# Altium footprint library diode.PcbLib: 26 footprints (part 1 of 2)
Each footprint in its own frame and in the unit in brackets; x right, y up, seen from the top. Pads: shape width x height; smd on the part's side, far side on the other; paste and mask are expansions set on the pad; w line width, h text height; cw(c..) or ccw(c..) is an arc to the next point about the centre after c.
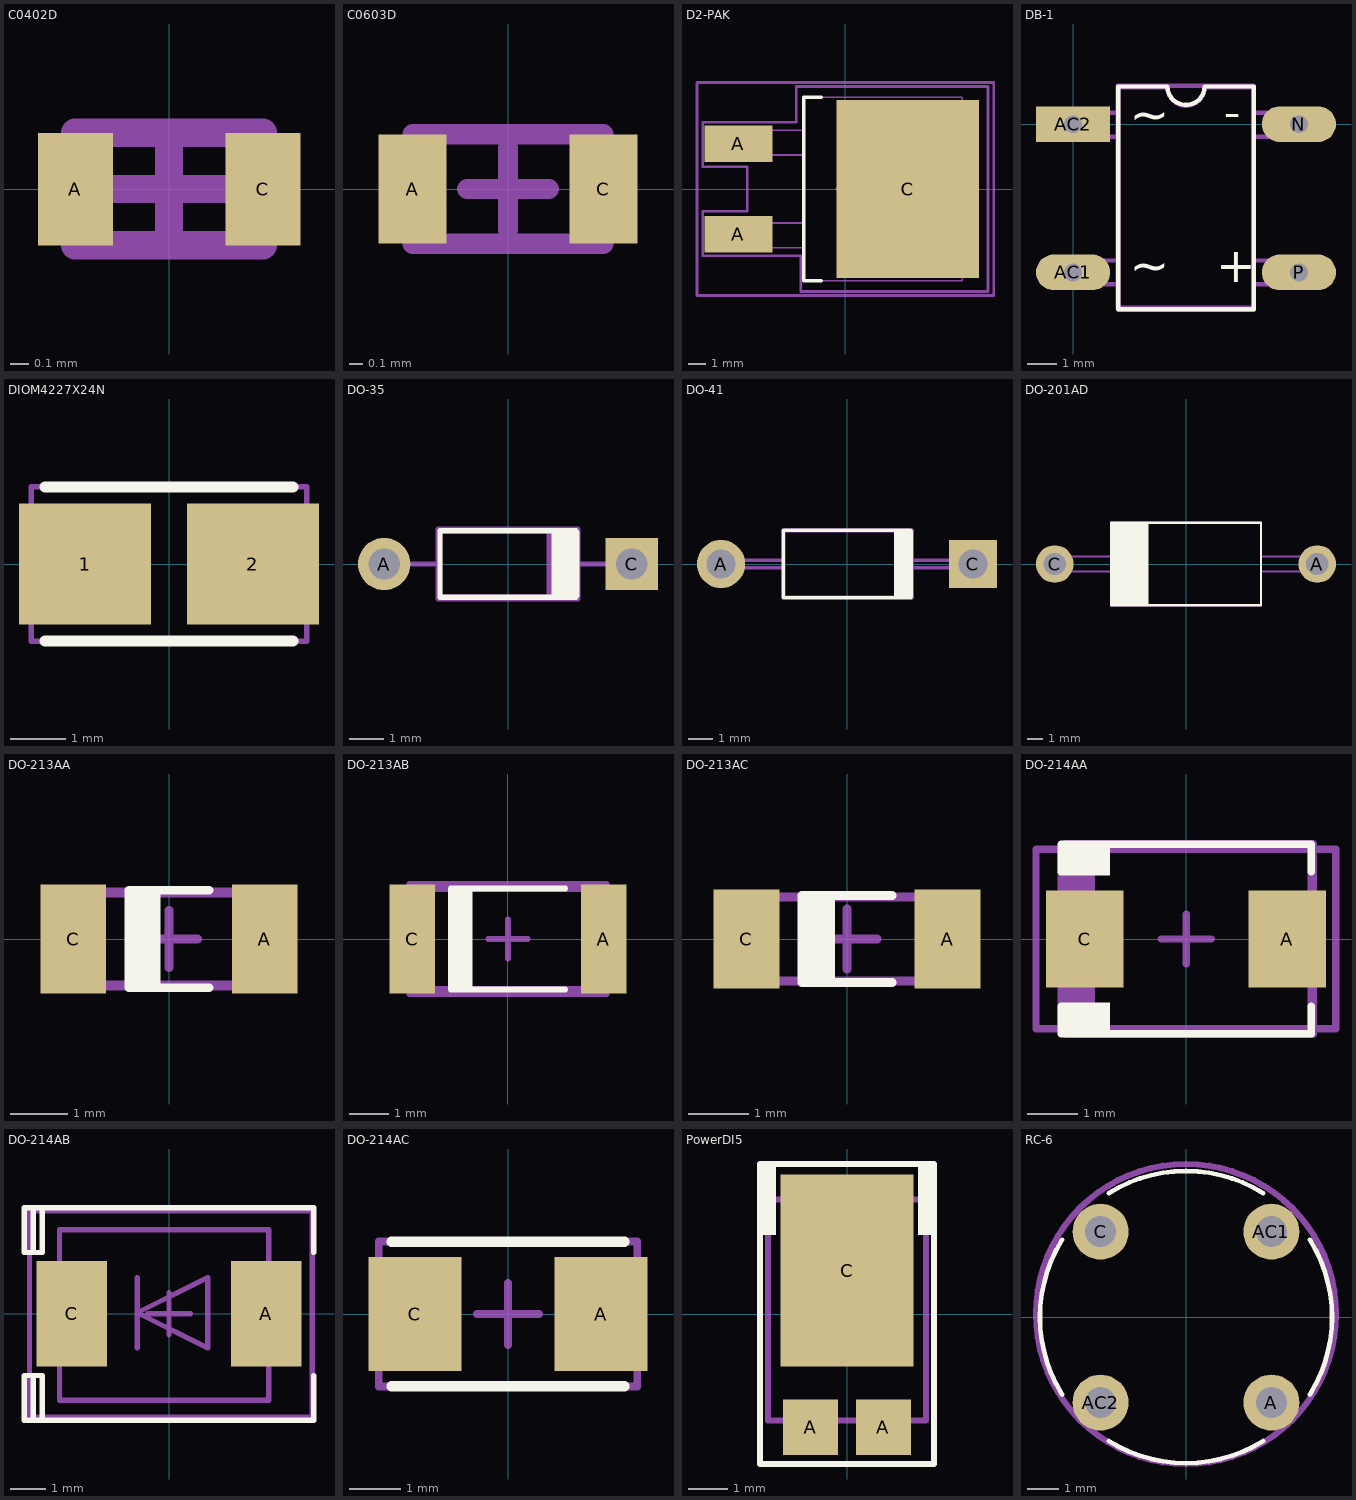
[diagram p0: the footprints below, top view; thin cyan lines are the x and y axes]

## C0402D [mm]
pads (2):
  rect 0.4x0.6 smd: A(-0.5,0) C(0.5,0)
Top Overlay:
  text "." at 1,0.5 h0.1
Top Courtyard:
  lines w0.15: -0.3,0 0.3,0 ; 0,-0.3 0,0.3 ; -0.5,-0.3 0.5,-0.3 0.5,0.3 -0.5,0.3 -0.5,-0.3
3D body: height 0.25, standoff 0, extent -0.52,-0.3 0.52,0.3

## C0603D [mm]
height 0.45
pads (2):
  rect 0.5x0.8 smd: A(-0.7,0) C(0.7,0)
Top Overlay:
  text "." at 1.2,0.8 h0.1
Top Courtyard:
  lines w0.15: -0.3,0 0.3,0 ; 0,-0.3 0,0.3 ; -0.7,-0.4 0.7,-0.4 0.7,0.4 -0.7,0.4 -0.7,-0.4
3D body: height 0.45, standoff 0, extent -0.7,-0.41 -0.5,0.41
3D body: height 0.45, standoff 0, extent 0.5,-0.41 0.7,0.41
3D body: height 0.45, standoff 0, extent -0.5,-0.41 0.5,0.41

## D2-PAK [mm] "D2-PAK, 3-Pads, Body 7,55x8,52mm (max), IPC Medium Density"
height 4.67
pads (3):
  rect 3.81x2.03 smd: A(-6,-2.54) A(-6,2.54)
  rect 8x10 smd: C(3.5,0)
Top Overlay:
  lines w0.2: -1.35,-5.15 -2.35,-5.15 -2.35,5.15 -1.35,5.15
  text "." at -6.85,4.8 h0.1
Top Courtyard:
  lines w0.15: -8,-3.75 -8,-1.25 -5.5,-1.25 -5.5,1.25 -8,1.25 -8,3.75 -2.75,3.75 -2.75,5.75 8,5.75 8,-5.75 -2.5,-5.75 -2.5,-3.75 -8,-3.75
Mechanical 15:
  lines w0.15: -0.5,0 0.5,0 ; 0,-0.5 0,0.5 ; -8.325,-5.975 -8.325,5.975 8.325,5.975 8.325,-5.975 -8.325,-5.975
Mechanical 29:
  lines w0.1: -2.35,-3.3 -6.9,-3.3 -6.9,-3 -6.9,-1.9 -2.35,-1.9 ; -2.35,1.9 -6.9,1.9 -6.9,2.2 -6.9,3.3 -2.35,3.3 ; -2.35,-5.15 6.55,-5.15 6.55,5.15 -2.35,5.15 -2.35,-5.15
  text ".Designator" at -1.25,-0.3 h1
3D body "D2-PAK.step": height 4.82, standoff 0, extent -7.405,-5.15 7.845,5.15

## DB-1 [mm]
pads (4):
  oval 2.5x1.2 hole 0.6: AC1(0,-5) N(7.62,0) P(7.62,-5)
  rect 2.5x1.2 hole 0.6: AC2(0,0)
Top Overlay:
  lines w0.15: 1.524,-6.25 6.096,-6.25 6.096,1.27 4.435,1.27 cw(c3.81,1.27) 3.185,1.27 1.524,1.27 1.524,-6.25
  text "~" at 1.905,-0.635 h2
  text "~" at 1.905,-5.715 h2
  text "+" at 4.826,-5.715 h2
  text "-" at 5.08,-0.508 h2
Top Courtyard:
  lines w0.15: 1.5,-6.2 1.5,1.3 3.8,1.3 6.1,1.3 6.1,-6.2 1.5,-6.2
Mechanical 29:
  lines w0.15: 1.525,-5.4 -0.628,-5.4 -0.628,-4.6 1.525,-4.6 ; 1.525,-0.42 -0.628,-0.42 -0.628,0.38 1.525,0.38 ; 6.097,-5.4 8.25,-5.4 8.25,-4.6 6.097,-4.6 ; 6.097,-0.42 8.25,-0.42 8.25,0.38 6.097,0.38 ; 1.525,-6.27 6.097,-6.27 6.097,1.25 4.436,1.25 cw(c3.811,1.25) 3.186,1.25 1.525,1.25 1.525,-6.27
  text "~" at 1.906,-0.655 h2
  text "~" at 1.906,-5.735 h2
  text "+" at 4.827,-5.735 h2
  text "-" at 5.081,-0.528 h2
3D body "User Library-Silicon Bridge Rectifiers DF10.step": height 3.55, standoff -3.26, extent -0.15,-6.604 7.77,1.596

## DIOM4227X24N [mm] "Molded Diode, 2-Leads, Body 4,25x2,67mm, IPC Medium Density"
height 2.4
pads (2):
  rect 2.4x2.2 smd: 1(-1.525,0) 2(1.525,0)
Top Overlay:
  lines w0.2: -2.25,-1.4 2.25,-1.4 ; -2.25,1.4 2.25,1.4
  text "." at -2.856,1.706 h0.1
Top Courtyard:
  lines w0.1: -2.5,-1.4 -2.5,1.4 2.5,1.4 2.5,-1.4 -2.5,-1.4
3D body "DIOM4227X24N.step": height 2.4, standoff 0, extent -2.47,-1.4 2.47,1.4

## DO-35 [mm] "Diode, Axial; Body 3.8 x 1.9 mm (LxDia. max), Lead Dia. 0.53 mm (max)"
height 1.9
pads (2):
  round 1.5 hole 0.9: A(-3.55,0)
  rect 1.5x1.5 hole 0.9: C(3.55,0)
Top Overlay:
  rectangle: 1.25,-0.95 2.05,0.95
  lines w0.15: 1.95,-0.95 -1.95,-0.95 -1.95,0.95 1.95,0.95
  text "." at 2.35,-0.8 h0.1
Top Courtyard:
  lines w0.15: -2,-1 -2,1 2,1 2,-1 -2,-1
Mechanical 29:
  rectangle: 1.1,-0.95 1.95,0.95
  lines w0.15: -3.55,0 -1.95,0 ; 1.95,0 3.55,0 ; -1.95,-0.95 1.95,-0.95 1.95,0.95 -1.95,0.95 -1.95,-0.95
3D body "DO-35.STEP": height 2.06, standoff -2.35, extent -3.805,-0.96 3.855,0.96

## DO-41 [mm] "Diode, Axial; Body 5.2 x 2.7 mm (LxDia. max), Lead Dia. 0.86 mm (max)"
height 2.8
pads (2):
  round 2 hole 1.2: A(-5.23,0)
  rect 2x2 hole 1.2: C(5.23,0)
Top Overlay:
  rectangle: 1.95,-1.4 2.75,1.4
  lines w0.15: 2.65,-1.4 -2.65,-1.4 -2.65,1.4 2.65,1.4
  text "." at 3.45,-1.1 h0.1
Top Courtyard:
  lines w0.15: 2.7,1.4 -2.6,1.4 2.7,1.4 ; 2.7,1.4 2.7,-1.4 2.7,1.4
Mechanical 29:
  rectangle: 1.975,-1.375 2.625,1.375
  lines w0.15: -2.675,-0.15 -5.23,-0.15 -5.23,0 -5.23,0.15 -2.675,0.15 ; 2.675,-0.15 5.23,-0.15 5.23,0 5.23,0.15 2.675,0.15 ; -2.625,-1.375 2.625,-1.375 2.625,1.375 -2.625,1.375 -2.625,-1.375
3D body "DO-41.STEP": height 2.76, standoff -2.45, extent -5.68,-1.31 5.68,1.41

## DO-201AD [mm]
height 5.3
pads (2):
  round 2.5 hole 1.5: A(8.75,0) C(-8.75,0)
Top Overlay:
  rectangle: -5,-2.75 -2.5,2.75
  lines w0.15: -5,-2.75 5,-2.75 5,2.75 -5,2.75 -5,0 -5,-2.75
  text "." at -8.75,1.8 h0.1
Top Courtyard:
  lines w0.15: -5,-0.5 -9,-0.5 -9,0.5 -5,0.5 ; 5,-0.5 9,-0.5 9,0.5 5,0.5 ; -5,-2.75 5,-2.75 5,2.75 -5,2.75 -5,-2.75

## DO-213AA [mm] "MELF Diode, 2-Leads, Body 3,50x1,65mm, IPC Medium Density"
height 1.65
pads (2):
  rect 1.15x1.9 smd: A(1.675,0) C(-1.675,0)
Top Overlay:
  rectangle: -0.7,-0.85 -0.15,0.85
  lines w0.15: 0.7,-0.85 -0.7,-0.85 -0.7,0.85 0.7,0.85
  text "." at -2.35,1.3 h0.1
Top Courtyard:
  lines w0.15: -0.5,0 0.5,0 ; 0,-0.5 0,0.5 ; -1.9,-0.8 1.9,-0.8 1.9,0.8 -1.9,0.8 -1.9,-0.8
Mechanical 29:
  rectangle: -1.75,-0.825 -1.1,0.825
  lines w0.15: -1.75,-0.825 1.75,-0.825 1.75,0.825 -1.75,0.825 -1.75,-0.825
3D body "DO-213AA.step": height 1.65, standoff 0.01, extent -1.75,-0.823 1.75,0.823

## DO-213AB [mm] "MELF Diode, 2-Leads, Body 5,00x2,52mm, IPC Medium Density"
height 2.52
pads (2):
  rect 1.15x2.75 smd: A(2.425,0) C(-2.425,0)
Top Overlay:
  rectangle: -1.45,-1.275 -0.9,1.275
  lines w0.15: 1.45,-1.275 -1.45,-1.275 -1.45,1.275 1.45,1.275
  text "." at -3.35,1.55 h0.1
Top Courtyard:
  lines w0.15: -0.5,0 0.5,0 ; 0,-0.5 0,0.5 ; -2.5,-1.4 -2.5,1.4 2.5,1.4 2.5,-1.4 -2.5,-1.4
Mechanical 29:
  rectangle: -2.5,-1.26 -2,1.26
  lines w0.15: -2.5,-1.26 -2.5,1.26 2.5,1.26 2.5,-1.26 -2.5,-1.26
3D body "DO-213AB.step": height 1.4, standoff 0.01, extent -1.725,-0.699 1.725,0.699

## DO-213AC [mm] "MELF Diode, 2-Leads, Body 3,45x1,40mm, IPC Medium Density"
height 1.4
pads (2):
  rect 1.1x1.65 smd: A(1.675,0) C(-1.675,0)
Top Overlay:
  rectangle: -0.75,-0.725 -0.2,0.725
  lines w0.15: 0.75,-0.725 -0.75,-0.725 -0.75,0.725 0.75,0.725
  text "." at -2.6,1.3 h0.1
Top Courtyard:
  lines w0.15: -0.5,0 0.5,0 ; 0,-0.5 0,0.5 ; -1.8,-0.7 1.8,-0.7 1.8,0.7 -1.8,0.7 -1.8,-0.7
Mechanical 29:
  rectangle: -1.725,-0.7 -1.3,0.7
  lines w0.15: -1.725,-0.7 1.725,-0.7 1.725,0.7 -1.725,0.7 -1.725,-0.7
3D body "DO-213AC.step": height 1.4, standoff 0.01, extent -1.725,-0.699 1.725,0.699

## DO-214AA [mm] "Molded Diode, 2-Leads, Body 5,00x3,70mm, IPC High Density"
height 2.1
pads (2):
  rect 1.55x1.95 smd: A(2.025,0) C(-2.025,0)
Top Overlay:
  rectangle: -2.5,-1.9 -1.524,-1.27
  rectangle: -2.5,1.27 -1.524,1.9
  lines w0.15: -2.5,-1.35 -2.5,-1.9 2.5,-1.9 2.5,-1.35 ; -2.5,1.35 -2.5,1.9 2.5,1.9 2.5,1.35
  text "." at -3.1,1.55 h0.1
Top Courtyard:
  lines w0.15: -0.5,0 0.5,0 ; 0,-0.5 0,0.5 ; -3.004,-1.8 2.991,-1.8 2.991,1.8 -3.004,1.8 -3.004,-1.8
Mechanical 13:
  rectangle: -2.5,-1.85 -1.827,1.85
  lines w0.15: -2.5,-1.85 2.5,-1.85 2.5,1.85 -2.5,1.85 -2.5,-1.85
Mechanical 29:
  lines w0.15: -1.778,-1.905 -1.905,-1.905 -1.905,1.905 -1.778,1.905 ; -2.413,-1.905 2.54,-1.905 2.54,1.905 -2.413,1.905 -2.413,-1.905
3D body "DO-214AA.step": height 2.3, standoff 0, extent -2.97,-1.8 2.97,1.8

## DO-214AB [mm]
pads (2):
  rect 2x3 smd: A(2.75,0) C(-2.75,0)
Top Overlay:
  lines w0.15: -3.85,-2.999 -3.85,-1.75 ; -3.848,1.734 -3.848,2.982 ; -3.592,-3.018 -3.592,-1.75 -4.1,-1.75 -4.1,-3.018 4.1,-3.018 4.1,-1.75 ; -3.59,3.002 -3.59,1.734 -4.098,1.734 -4.098,3.002 4.102,3.002 4.102,1.734
  text "." at -4.6,2.2 h0.1
Top Courtyard:
  lines w0.15: -3.95,2.913 4.064,2.913 ; -0.6,0 0.6,0 ; 0,-0.6 0,0.6 ; -3.952,-2.929 4.062,-2.929 4.062,2.991 -3.952,2.991 -3.952,-2.929
Mechanical 29:
  lines w0.15: -0.902,-0.972 -0.902,1.028 ; -3.1,-2.45 -3.1,2.375 2.825,2.375 2.825,-2.45 -3.1,-2.45 ; -0.902,0.028 1.098,1.028 1.098,-0.972 -0.902,0.028
3D body "SW3dPS-DO-214AB SMC.STEP": height 2.3, standoff 0, extent -3.9,-2.9 4.05,3

## DO-214AC [mm]
pads (2):
  rect 1.8x2.2 smd: A(1.8,0) C(-1.8,0)
Top Overlay:
  lines w0.2: -2.25,-1.4 2.25,-1.4 ; -2.25,1.4 2.25,1.4
  text "." at -2.805,1.58 h0.1
Top Courtyard:
  lines w0.15: -0.6,0 0.6,0 ; 0,-0.6 0,0.6 ; -2.5,-1.4 -2.5,1.4 2.5,1.4 2.5,-1.4 -2.5,-1.4
3D body "DIOM4227X24N.step": height 2.4, standoff 0, extent -2.47,-1.4 2.47,1.4

## PowerDI5 [mm]
height 1.5
pads (3):
  rect 1.39x1.4 smd: A(-0.92,-2.866) A(0.92,-2.866)
  rect 3.36x4.86 smd: C(0,1.1)
Top Overlay:
  region: 2.2,3.8 1.8,3.8 1.8,2 2.2,2
  rectangle: -2.2,2 -1.8,3.8
  lines w0.15: -2.2,-3.8 -2.2,0.9 -2.2,3.8 -2,3.8 2.2,3.8 2.2,-3.8 -2.1,-3.8 -2.2,-3.8
Top Courtyard:
  lines w0.15: -0.6,0 0.6,0 ; 0,-0.6 0,0.6 ; -2,-2.7 -2,2.9 2,2.9 2,-2.7 -2,-2.7
3D body: height 0.3, standoff 0, extent -0.9,2.3 0.9,3.3
3D body: height 0.3, standoff 0, extent 0.4,-3.3 1.4,-2.3
3D body: height 0.3, standoff 0, extent -1.4,-3.3 -0.4,-2.3
3D body: height 1.2, standoff 0, extent -2,-2.7 2,2.7

## RC-6 [mm]
pads (4):
  round 1.8 hole 1: A(2.75,-2.75) AC1(2.75,2.75) AC2(-2.75,-2.75) C(-2.75,2.75)
Top Overlay:
  lines w0.15: -3.986,-2.491 cw(c0,0) -3.986,2.491 ; -2.491,-3.986 ccw(c0,0) 2.491,-3.986 ; -2.491,3.986 cw(c0,0) 2.491,3.986 ; 3.986,-2.491 ccw(c0,0) 3.986,2.491
Top Courtyard:
  circle w0.2: c0,0.1 r4.827
3D body: height 6.1, standoff 0.5, extent -4.7,-4.697 4.7,4.697